# Altium schematic symbol library Graduation_Design_SCH_LIB.SchLib: 33 symbols
Pins are listed as number, name and electrical type; pins without a type are passive.

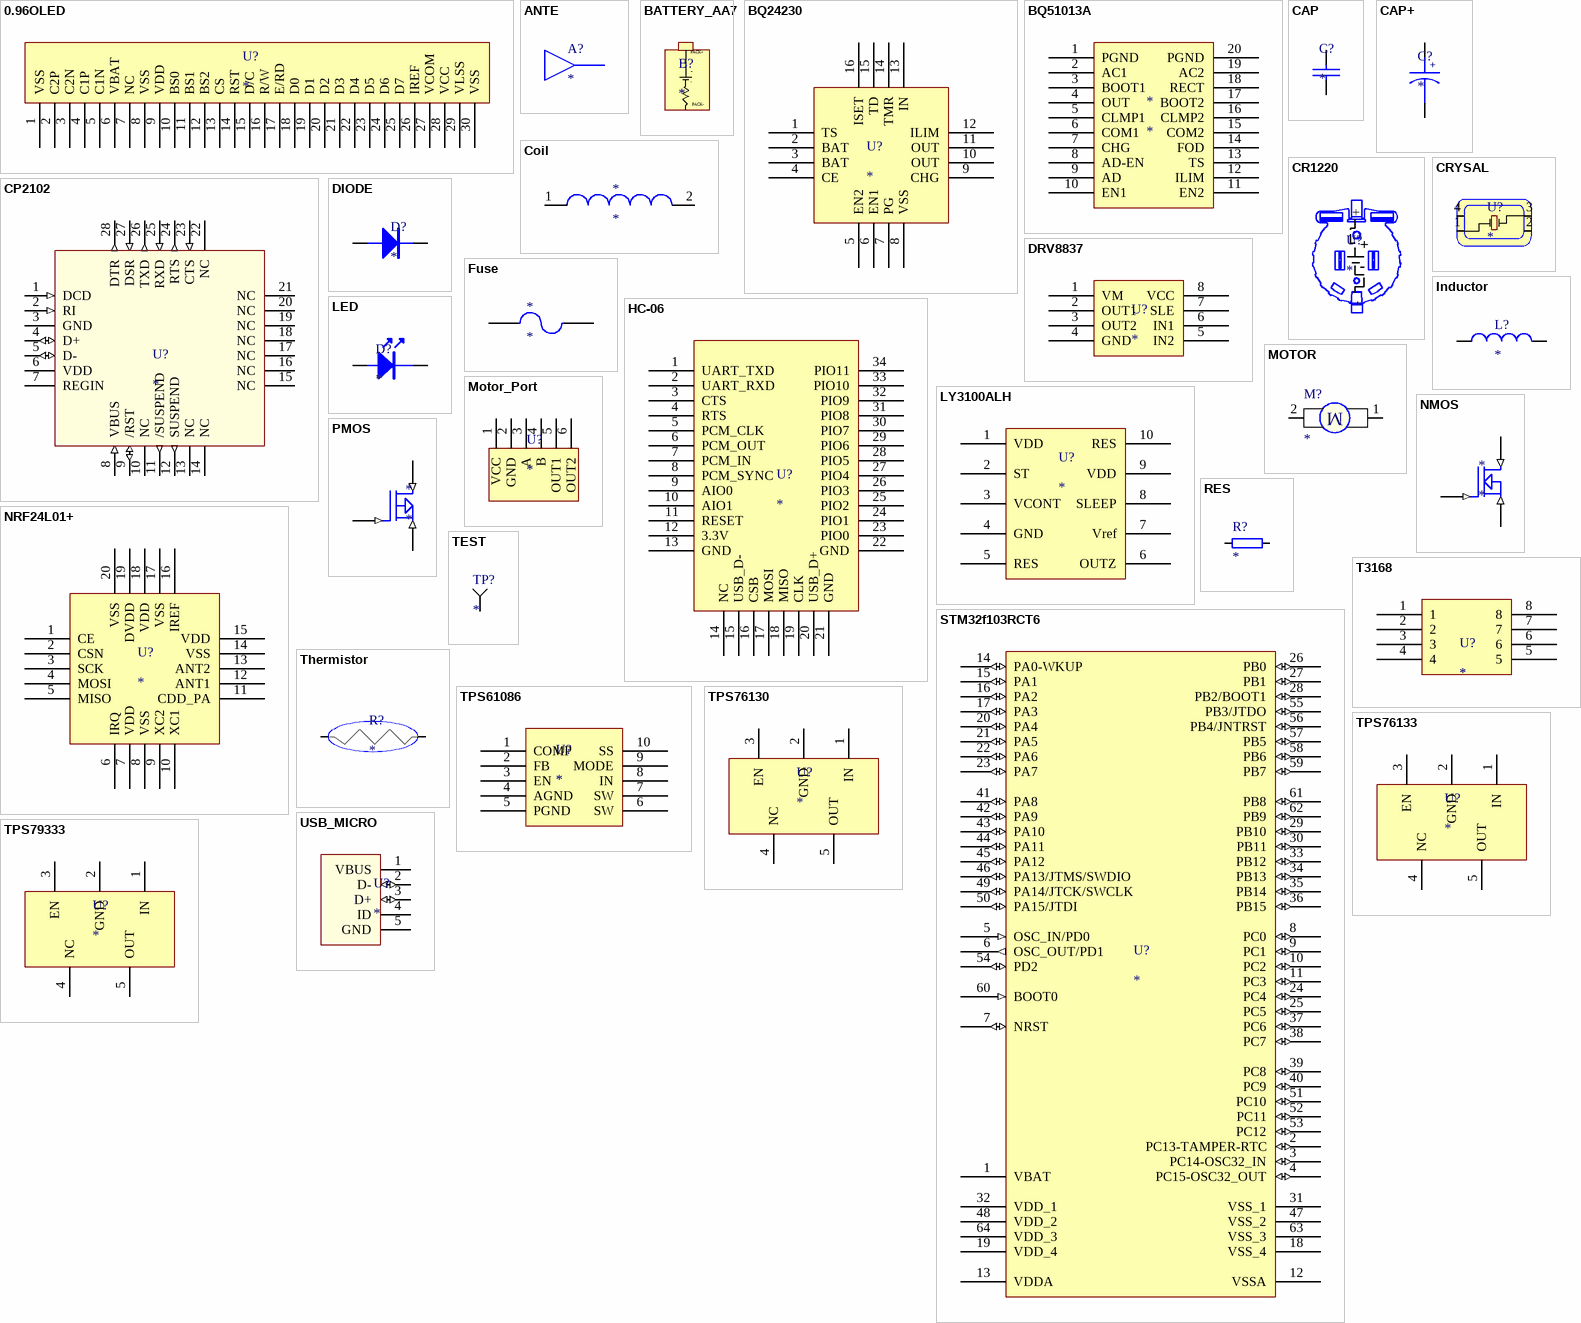
[diagram p0: symbols 0.96OLED to USB_MICRO]

## 0.96OLED
designator U?
footprint OLED0.95
pins: 1 VSS, 2 C2P, 3 C2N, 4 C1P, 5 C1N, 6 VBAT, 7 NC, 8 VSS, 9 VDD, 10 BS0, 11 BS1, 12 BS2, 13 CS, 14 RST, 15 D/C, 16 R/W, 17 E/RD, 18 D0, 19 D1, 20 D2, 21 D3, 22 D4, 23 D5, 24 D6, 25 D7, 26 IREF, 27 VCOM, 28 VCC, 29 VLSS, 30 VSS

## ANTE
designator A?
footprint AN9520
pins: 1

## BATTERY_AA7
designator B?
pins: 1 +, 2 -
text: PACK+; PACK-

## BQ24230
designator U?
footprint BQ24230 (QFN, 16-Leads, Body 3.77x3.77mm, Pitch 0.50mm, Thermal Pad 1.65x1.65mm, IPC Medium Density)
pins: 1 TS, 2 BAT, 3 BAT, 4 CE, 5 EN2, 6 EN1, 7 PG, 8 VSS, 9 CHG, 10 OUT, 11 OUT, 12 ILIM, 13 IN, 14 TMR, 15 TD, 16 ISET

## BQ51013A
designator *
pins: 1 PGND, 2 AC1, 3 BOOT1, 4 OUT, 5 CLMP1, 6 COM1, 7 CHG, 8 AD-EN, 9 AD, 10 EN1, 11 EN2, 12 ILIM, 13 TS, 14 FOD, 15 COM2, 16 CLMP2, 17 BOOT2, 18 RECT, 19 AC2, 20 PGND

## CAP
designator C?
footprint 0603cap
footprint 1206cap
pins: 1, 2

## CAP+
designator C?
footprint 0805CAP+
footprint 3216
pins: 1, 2
text: +

## Coil
designator *
pins: 1, 2

## CP2102
designator U?
footprint CP2102
pins: 1 DCD (in), 2 RI (in), 3 GND (power), 4 D+ (io), 5 D- (io), 6 VDD (power), 7 REGIN (power), 8 VBUS (in), 9 /RST (io), 10 NC, 11 /SUSPEND (out), 12 SUSPEND (out), 13 NC, 14 NC, 15 NC, 16 NC, 17 NC, 18 NC, 19 NC, 20 NC, 21 NC, 22 NC, 23 CTS (in), 24 RTS (out), 25 RXD (in), 26 TXD (out), 27 DSR (in), 28 DTR (out)

## CR1220
designator U?
footprint CR1220
pins: 1 +, 2 -

## CRYSAL
designator U?
footprint 3225CRYSTAL-8MHZ
footprint 3225CRYSTAL-16MHZ
pins: 1 #1, 2 #2, 3 #3, 4 #4

## DIODE
designator D?
footprint SOD323
footprint SOD-123
pins: 1 A, 2 K

## DRV8837
designator U?
footprint DRV8837 (PSON, 8-Leads, Body 2.60x2.60mm, Pitch 0.48mm, IPC Medium Density)
pins: 1 VM, 2 OUT1, 3 OUT2, 4 GND, 5 IN2, 6 IN1, 7 SLE, 8 VCC

## Fuse
designator *
pins: 1, 2

## HC-06
designator U?
footprint HC-06MIN
pins: 1 UART_TXD, 2 UART_RXD, 3 CTS, 4 RTS, 5 PCM_CLK, 6 PCM_OUT, 7 PCM_IN, 8 PCM_SYNC, 9 AIO0, 10 AIO1, 11 RESET, 12 3.3V, 13 GND, 14 NC, 15 USB_D-, 16 CSB, 17 MOSI, 18 MISO, 19 CLK, 20 USB_D+, 21 GND, 22 GND, 23 PIO0, 24 PIO1, 25 PIO2, 26 PIO3, 27 PIO4, 28 PIO5, 29 PIO6, 30 PIO7, 31 PIO8, 32 PIO9, 33 PIO10, 34 PIO11

## Inductor
designator L?
footprint 0603IND
footprint CTCDRH4D18
pins: 1, 2

## LED
designator D?
footprint 0603LED
pins: 1, 2

## LY3100ALH
designator U?
footprint LGA12C142P4X3_500X300X350 (LGA, 12-Leads, Body 5.00x3.00mmx3.50mm, Pitch 1.42mm)
pins: 1 VDD, 2 ST, 3 VCONT, 4 GND, 5 RES, 6 OUTZ, 7 Vref, 8 SLEEP, 9 VDD, 10 RES

## MOTOR
designator M?
pins: 1, 2
text: M

## Motor_Port
designator U?
pins: 1 VCC, 2 GND, 3 A, 4 B, 5 OUT1, 6 OUT2

## NMOS
designator *
pins: 1 G (in), 2 D (in), 3 S (in)

## NRF24L01+
designator U?
footprint NRF24L01+
pins: 1 CE, 2 CSN, 3 SCK, 4 MOSI, 5 MISO, 6 IRQ, 7 VDD, 8 VSS, 9 XC2, 10 XC1, 11 CDD_PA, 12 ANT1, 13 ANT2, 14 VSS, 15 VDD, 16 IREF, 17 VSS, 18 VDD, 19 DVDD, 20 VSS

## PMOS
designator *
pins: 1 G (in), 2 D (in), 3 S (in)

## RES
designator R?
footprint 0603RES
pins: 1, 2

## STM32f103RCT6
designator U?
footprint STM32f103RCT6
pins: 1 VBAT (power), 2 PC13-TAMPER-RTC (io), 3 PC14-OSC32_IN (io), 4 PC15-OSC32_OUT (io), 5 OSC_IN/PD0 (in), 6 OSC_OUT/PD1 (out), 7 NRST (io), 8 PC0 (io), 9 PC1 (io), 10 PC2 (io), 11 PC3 (io), 12 VSSA (power), 13 VDDA (power), 14 PA0-WKUP (io), 15 PA1 (io), 16 PA2 (io), 17 PA3 (io), 18 VSS_4 (power), 19 VDD_4 (power), 20 PA4 (io), 21 PA5 (io), 22 PA6 (io), 23 PA7 (io), 24 PC4 (io), 25 PC5 (io), 26 PB0 (io), 27 PB1 (io), 28 PB2/BOOT1 (io), 29 PB10 (io), 30 PB11 (io), 31 VSS_1 (power), 32 VDD_1 (power), 33 PB12 (io), 34 PB13 (io), 35 PB14 (io), 36 PB15 (io), 37 PC6 (io), 38 PC7 (io), 39 PC8 (io), 40 PC9 (io), 41 PA8 (io), 42 PA9 (io), 43 PA10 (io), 44 PA11 (io), 45 PA12 (io), 46 PA13/JTMS/SWDIO (io), 47 VSS_2 (power), 48 VDD_2 (power), 49 PA14/JTCK/SWCLK (io), 50 PA15/JTDI (io), 51 PC10 (io), 52 PC11 (io), 53 PC12 (io), 54 PD2 (io), 55 PB3/JTDO (io), 56 PB4/JNTRST (io), 57 PB5 (io), 58 PB6 (io), 59 PB7 (io), 60 BOOT0 (in), 61 PB8 (io), 62 PB9 (io), 63 VSS_3 (power), 64 VDD_3 (power)

## T3168
designator U?
pins: 1, 2, 3, 4, 5, 6, 7, 8

## TEST
designator TP?
footprint TEST
pins: 1

## Thermistor
designator R?
footprint thermistor
pins: 1, 2

## TPS61086
designator U?
footprint TPS61086 (QFN, 10-Leads, Body 3.00x3.00mm, Pitch 0.50mm, Thermal Pad 1.65x1.65mm, IPC Medium Density)
pins: 1 COMP, 2 FB, 3 EN, 4 AGND, 5 PGND, 6 SW, 7 SW, 8 IN, 9 MODE, 10 SS

## TPS76130
designator U?
footprint SOT23-5 (SOT23, 5-Leads, Body 3.00x2.45mm, Pitch 0.95mm, IPC Medium Density)
pins: 1 IN, 2 GND, 3 EN, 4 NC, 5 OUT

## TPS76133
designator U?
footprint SOT23-5 (SOT23, 5-Leads, Body 3.00x2.45mm, Pitch 0.95mm, IPC Medium Density)
pins: 1 IN, 2 GND, 3 EN, 4 NC, 5 OUT

## TPS79333
designator U?
footprint SOT23-5 (SOT23, 5-Leads, Body 3.00x2.45mm, Pitch 0.95mm, IPC Medium Density)
pins: 1 IN, 2 GND, 3 EN, 4 NC, 5 OUT

## USB_MICRO
designator U?
pins: 1 VBUS (power), 2 D- (io), 3 D+ (io), 4 ID, 5 GND (power)